# EAGLE library part USB (library OAlib)
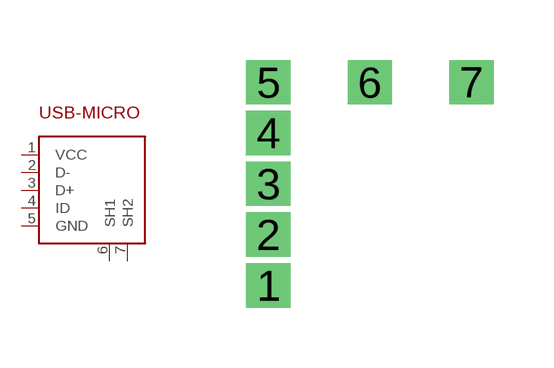
[diagram p1: symbol with the pads of USB-MICRO-DUMMY; footprint USB-MICRO-DUMMY]

Designator prefix -

## USB  [USB-MICRO-DUMMY]
1  VCC
2  D-
3  D+
4  ID
5  GND
6  SH1
7  SH2

## Footprint USB-MICRO-DUMMY (pad centres in mm)
drill 0.6 square: 1 -1.27,0; 2 -1.27,1.27; 3 -1.27,2.54; 4 -1.27,3.81; 5 -1.27,5.08; 6 1.27,5.08; 7 3.81,5.08